# EAGLE library part HEADER-PIN_ (library HEADER-PIN)
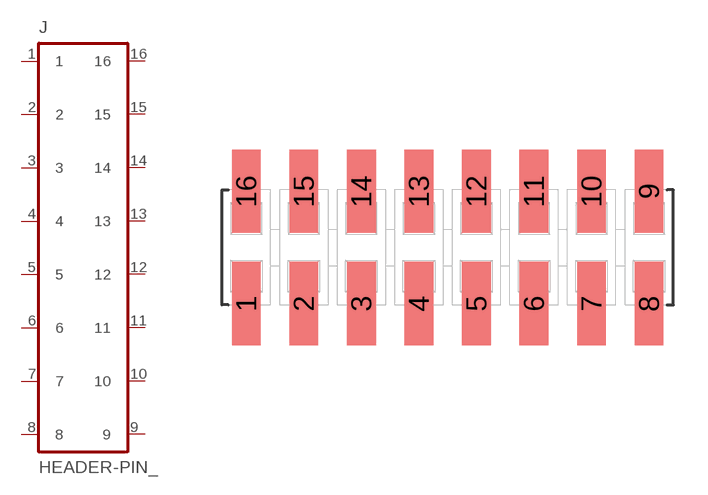
[diagram p0: symbol with the pads of TSM-108-01-S-DV; footprint TSM-108-01-S-DV]

Designator prefix J

## HEADER-PIN_2X8  [TSM-108-01-S-DV]
1  1
2  2
3  3
4  4
5  5
6  6
7  7
8  8
9  9
10  10
11  11
12  12
13  13
14  14
15  15
16  16

## Footprint TSM-108-01-S-DV (pad centres in mm)
smd 1.27 x 3.683: 1 -8.89,-2.477; 2 -6.35,-2.477; 3 -3.81,-2.477; 4 -1.27,-2.477; 5 1.27,-2.477; 6 3.81,-2.477; 7 6.35,-2.477; 8 8.89,-2.477; 9 8.89,2.477; 10 6.35,2.477; 11 3.81,2.477; 12 1.27,2.477; 13 -1.27,2.477; 14 -3.81,2.477; 15 -6.35,2.477; 16 -8.89,2.477